# EAGLE library part OPA2364_ (library Chromation)
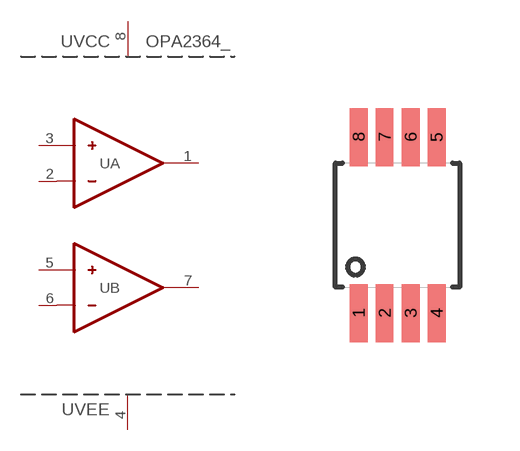
[diagram p0: symbol with the pads of DGK; footprint DGK]

Designator prefix U; gates VCC=OP-AMP_VCC VEE=OP-AMP_VEE A=OP-AMP_NO-VALUE B=OP-AMP_NO-VALUE

## OPA2364_VSSOP-8  [DGK]
1  A:OUT
2  A:IN-
3  A:IN+
4  VEE:VEE
5  B:IN+
6  B:IN-
7  B:OUT
8  VCC:VCC

## Footprint DGK (pad centres in mm)
smd 0.45 x 1.45: 1 -0.975,-2.2; 2 -0.325,-2.2; 3 0.325,-2.2; 4 0.975,-2.2; 5 0.975,2.2; 6 0.325,2.2; 7 -0.325,2.2; 8 -0.975,2.2